# Altium schematic symbol library 2019-03-18_20-52-44.SchLib: 2 symbols
Pins are listed as number, name and electrical type; pins without a type are passive.

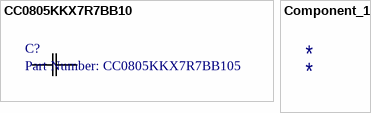
[diagram p0: symbols CC0805KKX7R7BB10 to Component_1]

## CC0805KKX7R7BB10
designator C?, comment Part Number: CC0805KKX7R7BB105
No Description Available; Vendor: Yageo; Built_By: EMA_UL_Team; Type: DEV; Manufacturer_Part_Number: CC0805KKX7R7BB105; Copyright: Copyright (C) 2018 Accelerated Designs. All rights reserved; RefDes: RefDes; Value: Value
footprint YAG_CC0805
pins: 1, 2

## Component_1
designator *